# EAGLE library part AD8079 (library FreeSmartEEG)
Dual 260 MHz Gain = +2.0 & +2.2 Buffer Source: http://www.analog.com/static/imported-files/data_sheets/AD8079.pdf
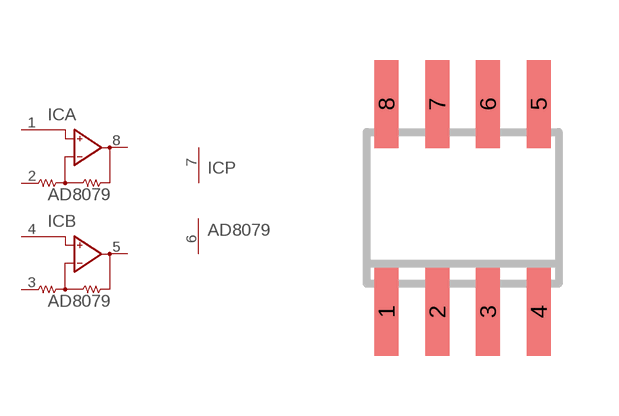
[diagram p102: symbol with the pads of SO8; footprint SO8]

Designator prefix IC; gates A=OP-GAIN B=OP-GAIN P=PWR+-

## AD8079 (MF: ALTERA CORPORATION; MPN: AD8079BRZ; OC_FARNELL: 1838858; OC_NEWARK: 59K6340)  [SO8]
1  A:IN+  in
2  A:GND  pas
3  B:GND  pas
4  B:IN+  in
5  B:OUT  out
6  P:V-  pwr
7  P:V+  pwr
8  A:OUT  out

## Footprint SO8 (pad centres in mm)
8-Lead Small Outline IC (SO-8) Source: http://www.analog.com/UploadedFiles/Data_Sheets/703465986AD8611_2_0.pdf
smd 0.6 x 2.2: 1 -1.905,-2.6; 2 -0.635,-2.6; 3 0.635,-2.6; 4 1.905,-2.6; 5 1.905,2.6; 6 0.635,2.6; 7 -0.635,2.6; 8 -1.905,2.6